# Altium integrated library Maxim Sensors.IntLib: 1171 symbols (part 11 of 61)
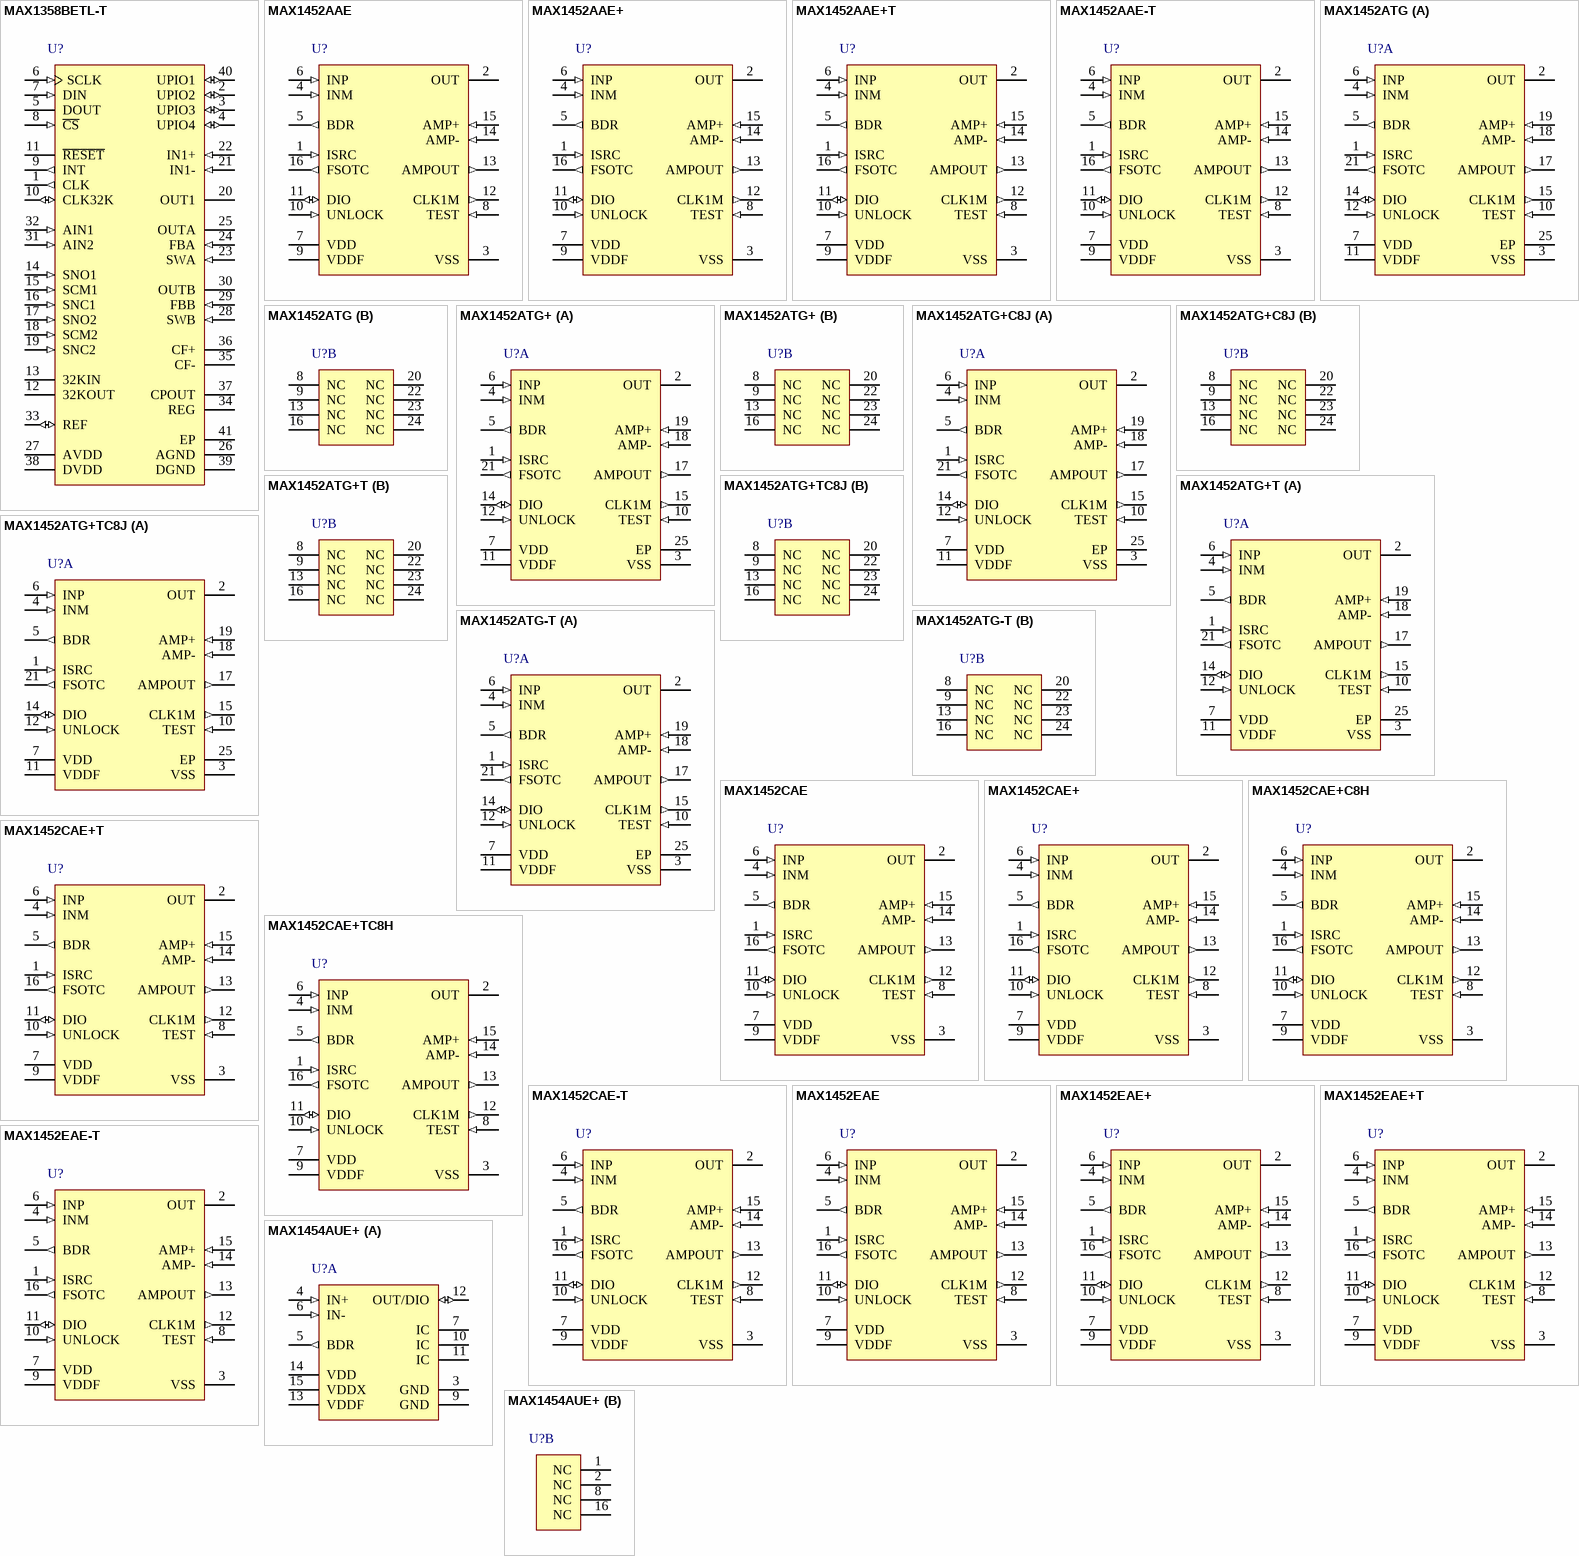
[diagram p43: symbols MAX1358BETL-T to MAX1454AUE+]

## MAX1452AAE+
designator U?
Low Cost Precision Sensor Signal Conditioner with 16-bit DAC, -40 to 125 degC, 24-Pin SOP (A16+2), Pb-Free; Generic Part Number: MAX1452; PartNumber: MAX1452AAE+; Calibration Method: Internal DACs updated from internal EEPROM; Industry Qualified: Automotive - AECQ100, Automotive - General; Output Type: Analog; DatasheetVersion: Rev. 2; PackageVersion: Rev. C, 02/2010; PackageReference: A16+2; PackageDescription: 16-Pin Shrink Small-Outline Package, Body 5.29 x 6.2 mm, Pitch 0.65 mm; Supplier 1: Digi-Key; Supplier Part Number 1: MAX1452AAE+-ND; Supplier 2: Farnell; Supplier Part Number 2: 1606618; Supplier 3: Mouser; Supplier Part Number 3: 700-MAX1452AAE; DACs/ADCs: 16-bit DAC; Features: Aux. Op Amp, No External Trim Req'd ,Temp. Sensor; Mounting Technology: Surface Mount; ComponentLink1Description: Manufacturer URL; ComponentLink1URL: http://www.maximintegrated.com/; ComponentLink2Description: Datasheet; ComponentLink2URL: http://datasheets.maximintegrated.com/en/ds/MAX1452.pdf; ComponentLink3Description: Package Specification; ComponentLink3URL: http://pdfserv.maximintegrated.com/package_dwgs/21-0056.PDF
footprint MAXM-A16+2_N (SOP, 16-Leads, Body 6.2x5.29mm, Pitch 0.65mm, IPC Medium Density)
footprint MAXM-A16+2_L (SOP, 16-Leads, Body 6.2x5.29mm, Pitch 0.65mm, IPC High Density)
footprint MAXM-A16+2_M (SOP, 16-Leads, Body 6.2x5.29mm, Pitch 0.65mm, IPC Low Density)
pins: 1 ISRC (in) "Bridge Drive Current Mode Setting", 2 OUT (hiz) "High ESD and Scan Path Output Signal. May need a 0.1uF capacitor, in noisy environments. OUT may be parallel connected to DIO.", 3 VSS (power) "Negative Supply Voltage", 4 INM (in) "Bridge Negative Input. Can be swapped to INP by configuration register.", 5 BDR (out) "Bridge Drive", 6 INP (in) "Bridge Positive Input. Can be swapped to INM by configuration register.", 7 VDD (power) "Positive Supply Voltage. Connect a 0.1uF capacitor from VDD to VSS.", 8 TEST (in) "Internally Connected. Connect to VSS.", 9 VDDF (power) "Positive Supply Voltage for EEPROM. Connect a 1uF capacitor from VDDF to VSS. Connect VDDF to VDD or for improved noise performance connect a 30ohm resistor to VDD.", 10 UNLOCK (in) "Secure-Lock Disable. Allows communication to the device.", 11 DIO (io) "Digital Input Output. DIO allows communication with the device.", 12 CLK1M (out) "1MHz Clock Output. The output can be controlled by a configuration bit.", 13 AMPOUT (out) "Uncommitted Amplifier Output", 14 AMP- (in) "Uncommitted Amplifier Negative Input", 15 AMP+ (in) "Uncommitted Amplifier Positive Input", 16 FSOTC (out) "Full Span TC Buffered Output"

## MAX1452AAE+T
designator U?
Low Cost Precision Sensor Signal Conditioner with 16-bit DAC, -40 to 125 degC, 24-Pin SOP (A16+2), Pb-Free, Tape and Reel; Generic Part Number: MAX1452; PartNumber: MAX1452AAE+T; Calibration Method: Internal DACs updated from internal EEPROM; Industry Qualified: Automotive - AECQ100, Automotive - General; Output Type: Analog; DatasheetVersion: Rev. 2; PackageVersion: Rev. C, 02/2010; PackageReference: A16+2; PackageDescription: 16-Pin Shrink Small-Outline Package, Body 5.29 x 6.2 mm, Pitch 0.65 mm; Supplier 1: Digi-Key; Supplier Part Number 1: MAX1452AAE+T-ND; Supplier 2: Mouser; Supplier Part Number 2: 700-MAX1452AAET; DACs/ADCs: 16-bit DAC; Features: Aux. Op Amp, No External Trim Req'd ,Temp. Sensor; Packing: Tape and Reel; Mounting Technology: Surface Mount; ComponentLink1Description: Manufacturer URL; ComponentLink1URL: http://www.maximintegrated.com/; ComponentLink2Description: Datasheet; ComponentLink2URL: http://datasheets.maximintegrated.com/en/ds/MAX1452.pdf; ComponentLink3Description: Package Specification; ComponentLink3URL: http://pdfserv.maximintegrated.com/package_dwgs/21-0056.PDF
footprint MAXM-A16+2_N (SOP, 16-Leads, Body 6.2x5.29mm, Pitch 0.65mm, IPC Medium Density)
footprint MAXM-A16+2_L (SOP, 16-Leads, Body 6.2x5.29mm, Pitch 0.65mm, IPC High Density)
footprint MAXM-A16+2_M (SOP, 16-Leads, Body 6.2x5.29mm, Pitch 0.65mm, IPC Low Density)
pins: 1 ISRC (in) "Bridge Drive Current Mode Setting", 2 OUT (hiz) "High ESD and Scan Path Output Signal. May need a 0.1uF capacitor, in noisy environments. OUT may be parallel connected to DIO.", 3 VSS (power) "Negative Supply Voltage", 4 INM (in) "Bridge Negative Input. Can be swapped to INP by configuration register.", 5 BDR (out) "Bridge Drive", 6 INP (in) "Bridge Positive Input. Can be swapped to INM by configuration register.", 7 VDD (power) "Positive Supply Voltage. Connect a 0.1uF capacitor from VDD to VSS.", 8 TEST (in) "Internally Connected. Connect to VSS.", 9 VDDF (power) "Positive Supply Voltage for EEPROM. Connect a 1uF capacitor from VDDF to VSS. Connect VDDF to VDD or for improved noise performance connect a 30ohm resistor to VDD.", 10 UNLOCK (in) "Secure-Lock Disable. Allows communication to the device.", 11 DIO (io) "Digital Input Output. DIO allows communication with the device.", 12 CLK1M (out) "1MHz Clock Output. The output can be controlled by a configuration bit.", 13 AMPOUT (out) "Uncommitted Amplifier Output", 14 AMP- (in) "Uncommitted Amplifier Negative Input", 15 AMP+ (in) "Uncommitted Amplifier Positive Input", 16 FSOTC (out) "Full Span TC Buffered Output"

## MAX1452AAE-T
designator U?
Low Cost Precision Sensor Signal Conditioner with 16-bit DAC, -40 to 125 degC, 24-Pin SOP (A16-2), Tape and Reel; Generic Part Number: MAX1452; PartNumber: MAX1452AAE-T; Calibration Method: Internal DACs updated from internal EEPROM; Industry Qualified: Automotive - AECQ100, Automotive - General; Output Type: Analog; DatasheetVersion: Rev. 2; PackageVersion: Rev. C, 02/2010; PackageReference: A16-2; PackageDescription: 16-Pin Shrink Small-Outline Package, Body 5.29 x 6.2 mm, Pitch 0.65 mm; Supplier 1: Mouser; Supplier Part Number 1: N/A; DACs/ADCs: 16-bit DAC; Features: Aux. Op Amp, No External Trim Req'd ,Temp. Sensor; Packing: Tape and Reel; Mounting Technology: Surface Mount; ComponentLink1Description: Manufacturer URL; ComponentLink1URL: http://www.maximintegrated.com/; ComponentLink2Description: Datasheet; ComponentLink2URL: http://datasheets.maximintegrated.com/en/ds/MAX1452.pdf; ComponentLink3Description: Package Specification; ComponentLink3URL: http://pdfserv.maximintegrated.com/package_dwgs/21-0056.PDF
footprint MAXM-A16-2_N (SOP, 16-Leads, Body 6.2x5.29mm, Pitch 0.65mm, IPC Medium Density)
footprint MAXM-A16-2_L (SOP, 16-Leads, Body 6.2x5.29mm, Pitch 0.65mm, IPC High Density)
footprint MAXM-A16-2_M (SOP, 16-Leads, Body 6.2x5.29mm, Pitch 0.65mm, IPC Low Density)
pins: 1 ISRC (in) "Bridge Drive Current Mode Setting", 2 OUT (hiz) "High ESD and Scan Path Output Signal. May need a 0.1uF capacitor, in noisy environments. OUT may be parallel connected to DIO.", 3 VSS (power) "Negative Supply Voltage", 4 INM (in) "Bridge Negative Input. Can be swapped to INP by configuration register.", 5 BDR (out) "Bridge Drive", 6 INP (in) "Bridge Positive Input. Can be swapped to INM by configuration register.", 7 VDD (power) "Positive Supply Voltage. Connect a 0.1uF capacitor from VDD to VSS.", 8 TEST (in) "Internally Connected. Connect to VSS.", 9 VDDF (power) "Positive Supply Voltage for EEPROM. Connect a 1uF capacitor from VDDF to VSS. Connect VDDF to VDD or for improved noise performance connect a 30ohm resistor to VDD.", 10 UNLOCK (in) "Secure-Lock Disable. Allows communication to the device.", 11 DIO (io) "Digital Input Output. DIO allows communication with the device.", 12 CLK1M (out) "1MHz Clock Output. The output can be controlled by a configuration bit.", 13 AMPOUT (out) "Uncommitted Amplifier Output", 14 AMP- (in) "Uncommitted Amplifier Negative Input", 15 AMP+ (in) "Uncommitted Amplifier Positive Input", 16 FSOTC (out) "Full Span TC Buffered Output"

## MAX1452ATG
designator U?
Low Cost Precision Sensor Signal Conditioner with 16-bit DAC, -40 to 125 degC, 24-Pin QFN (T2444-4); Generic Part Number: MAX1452; PartNumber: MAX1452ATG; Calibration Method: Internal DACs updated from internal EEPROM; Industry Qualified: Automotive - AECQ100, Automotive - General; Output Type: Analog; DatasheetVersion: Rev. 2; PackageVersion: Rev. L, 04/2012; PackageReference: T2444-4; PackageDescription: 24-Pin Thin Quad Flatpack, No Leads, Body 4 x 4 mm, Pitch 0.5 mm; Supplier 1: Mouser; Supplier Part Number 1: N/A; DACs/ADCs: 16-bit DAC; Features: Aux. Op Amp, No External Trim Req'd ,Temp. Sensor; Mounting Technology: Surface Mount; Code_JEDEC: MO-220; ComponentLink1Description: Manufacturer URL; ComponentLink1URL: http://www.maximintegrated.com/; ComponentLink2Description: Datasheet; ComponentLink2URL: http://datasheets.maximintegrated.com/en/ds/MAX1452.pdf; ComponentLink3Description: Package Specification; ComponentLink3URL: http://pdfserv.maximintegrated.com/package_dwgs/21-0139.PDF
footprint MAXM-T2444-4_N (QFN, 24-Leads, Body 4x3.9mm, Pitch 0.5mm, Thermal Pad 2.54x2.54mm, IPC Medium Density)
footprint MAXM-T2444-4_L (QFN, 24-Leads, Body 4x3.9mm, Pitch 0.5mm, Thermal Pad 2.54x2.54mm, IPC High Density)
footprint MAXM-T2444-4_M (QFN, 24-Leads, Body 4x3.9mm, Pitch 0.5mm, Thermal Pad 2.54x2.54mm, IPC Low Density)
part A pins: 1 ISRC (in) "Bridge Drive Current Mode Setting", 2 OUT (hiz) "High ESD and Scan Path Output Signal. May need a 0.1uF capacitor, in noisy environments. OUT may be parallel connected to DIO.", 3 VSS (power) "Negative Supply Voltage", 4 INM (in) "Bridge Negative Input. Can be swapped to INP by configuration register.", 5 BDR (out) "Bridge Drive", 6 INP (in) "Bridge Positive Input. Can be swapped to INM by configuration register.", 7 VDD (power) "Positive Supply Voltage. Connect a 0.1uF capacitor from VDD to VSS.", 10 TEST (in) "Internally Connected. Connect to VSS.", 11 VDDF (power) "Positive Supply Voltage for EEPROM. Connect a 1uF capacitor from VDDF to VSS. Connect VDDF to VDD or for improved noise performance connect a 30ohm resistor to VDD.", 12 UNLOCK (in) "Secure-Lock Disable. Allows communication to the device.", 14 DIO (io) "Digital Input Output. DIO allows communication with the device.", 15 CLK1M (out) "1MHz Clock Output. The output can be controlled by a configuration bit.", 17 AMPOUT (out) "Uncommitted Amplifier Output", 18 AMP- (in) "Uncommitted Amplifier Negative Input", 19 AMP+ (in) "Uncommitted Amplifier Positive Input", 21 FSOTC (out) "Full Span TC Buffered Output", 25 EP (power) "Exposed Pad (TQFN Only). Internally connected; connect to VSS."
part B pins: 8 NC "No Connection. Not internally connected; leave unconnected (TQFN package only).", 9 NC "No Connection. Not internally connected; leave unconnected (TQFN package only).", 13 NC "No Connection. Not internally connected; leave unconnected (TQFN package only).", 16 NC "No Connection. Not internally connected; leave unconnected (TQFN package only).", 20 NC "No Connection. Not internally connected; leave unconnected (TQFN package only).", 22 NC "No Connection. Not internally connected; leave unconnected (TQFN package only).", 23 NC "No Connection. Not internally connected; leave unconnected (TQFN package only).", 24 NC "No Connection. Not internally connected; leave unconnected (TQFN package only)."

## MAX1452ATG+
designator U?
Low Cost Precision Sensor Signal Conditioner with 16-bit DAC, -40 to 125 degC, 24-Pin QFN (T2444+4), Pb-Free; Generic Part Number: MAX1452; PartNumber: MAX1452ATG+; Calibration Method: Internal DACs updated from internal EEPROM; Industry Qualified: Automotive - AECQ100, Automotive - General; Output Type: Analog; DatasheetVersion: Rev. 2; PackageVersion: Rev. L, 04/2012; PackageReference: T2444+4; PackageDescription: 24-Pin Thin Quad Flatpack, No Leads, Body 4 x 4 mm, Pitch 0.5 mm; Supplier 1: Digi-Key; Supplier Part Number 1: MAX1452ATG+-ND; Supplier 2: Mouser; Supplier Part Number 2: 700-MAX1452ATG+; DACs/ADCs: 16-bit DAC; Features: Aux. Op Amp, No External Trim Req'd ,Temp. Sensor; Mounting Technology: Surface Mount; Code_JEDEC: MO-220; ComponentLink1Description: Manufacturer URL; ComponentLink1URL: http://www.maximintegrated.com/; ComponentLink2Description: Datasheet; ComponentLink2URL: http://datasheets.maximintegrated.com/en/ds/MAX1452.pdf; ComponentLink3Description: Package Specification; ComponentLink3URL: http://pdfserv.maximintegrated.com/package_dwgs/21-0139.PDF
footprint MAXM-T2444+4_N (QFN, 24-Leads, Body 4x3.9mm, Pitch 0.5mm, Thermal Pad 2.54x2.54mm, IPC Medium Density)
footprint MAXM-T2444+4_L (QFN, 24-Leads, Body 4x3.9mm, Pitch 0.5mm, Thermal Pad 2.54x2.54mm, IPC High Density)
footprint MAXM-T2444+4_M (QFN, 24-Leads, Body 4x3.9mm, Pitch 0.5mm, Thermal Pad 2.54x2.54mm, IPC Low Density)
part A pins: 1 ISRC (in) "Bridge Drive Current Mode Setting", 2 OUT (hiz) "High ESD and Scan Path Output Signal. May need a 0.1uF capacitor, in noisy environments. OUT may be parallel connected to DIO.", 3 VSS (power) "Negative Supply Voltage", 4 INM (in) "Bridge Negative Input. Can be swapped to INP by configuration register.", 5 BDR (out) "Bridge Drive", 6 INP (in) "Bridge Positive Input. Can be swapped to INM by configuration register.", 7 VDD (power) "Positive Supply Voltage. Connect a 0.1uF capacitor from VDD to VSS.", 10 TEST (in) "Internally Connected. Connect to VSS.", 11 VDDF (power) "Positive Supply Voltage for EEPROM. Connect a 1uF capacitor from VDDF to VSS. Connect VDDF to VDD or for improved noise performance connect a 30ohm resistor to VDD.", 12 UNLOCK (in) "Secure-Lock Disable. Allows communication to the device.", 14 DIO (io) "Digital Input Output. DIO allows communication with the device.", 15 CLK1M (out) "1MHz Clock Output. The output can be controlled by a configuration bit.", 17 AMPOUT (out) "Uncommitted Amplifier Output", 18 AMP- (in) "Uncommitted Amplifier Negative Input", 19 AMP+ (in) "Uncommitted Amplifier Positive Input", 21 FSOTC (out) "Full Span TC Buffered Output", 25 EP (power) "Exposed Pad (TQFN Only). Internally connected; connect to VSS."
part B pins: 8 NC "No Connection. Not internally connected; leave unconnected (TQFN package only).", 9 NC "No Connection. Not internally connected; leave unconnected (TQFN package only).", 13 NC "No Connection. Not internally connected; leave unconnected (TQFN package only).", 16 NC "No Connection. Not internally connected; leave unconnected (TQFN package only).", 20 NC "No Connection. Not internally connected; leave unconnected (TQFN package only).", 22 NC "No Connection. Not internally connected; leave unconnected (TQFN package only).", 23 NC "No Connection. Not internally connected; leave unconnected (TQFN package only).", 24 NC "No Connection. Not internally connected; leave unconnected (TQFN package only)."

## MAX1452ATG+C8J
designator U?
Low Cost Precision Sensor Signal Conditioner with 16-bit DAC, -40 to 125 degC, 24-Pin QFN (T2444+4), Pb-Free; Generic Part Number: MAX1452; PartNumber: MAX1452ATG+C8J; Calibration Method: Internal DACs updated from internal EEPROM; Industry Qualified: Automotive - AECQ100, Automotive - General; Output Type: Analog; DatasheetVersion: Rev. 2; PackageVersion: Rev. L, 04/2012; PackageReference: T2444+4; PackageDescription: 24-Pin Thin Quad Flatpack, No Leads, Body 4 x 4 mm, Pitch 0.5 mm; Supplier 1: Mouser; Supplier Part Number 1: N/A; DACs/ADCs: 16-bit DAC; Features: Aux. Op Amp, No External Trim Req'd ,Temp. Sensor; Mounting Technology: Surface Mount; Code_JEDEC: MO-220; ComponentLink1Description: Manufacturer URL; ComponentLink1URL: http://www.maximintegrated.com/; ComponentLink2Description: Datasheet; ComponentLink2URL: http://datasheets.maximintegrated.com/en/ds/MAX1452.pdf; ComponentLink3Description: Package Specification; ComponentLink3URL: http://pdfserv.maximintegrated.com/package_dwgs/21-0139.PDF
footprint MAXM-T2444+4_N (QFN, 24-Leads, Body 4x3.9mm, Pitch 0.5mm, Thermal Pad 2.54x2.54mm, IPC Medium Density)
footprint MAXM-T2444+4_L (QFN, 24-Leads, Body 4x3.9mm, Pitch 0.5mm, Thermal Pad 2.54x2.54mm, IPC High Density)
footprint MAXM-T2444+4_M (QFN, 24-Leads, Body 4x3.9mm, Pitch 0.5mm, Thermal Pad 2.54x2.54mm, IPC Low Density)
part A pins: 1 ISRC (in) "Bridge Drive Current Mode Setting", 2 OUT (hiz) "High ESD and Scan Path Output Signal. May need a 0.1uF capacitor, in noisy environments. OUT may be parallel connected to DIO.", 3 VSS (power) "Negative Supply Voltage", 4 INM (in) "Bridge Negative Input. Can be swapped to INP by configuration register.", 5 BDR (out) "Bridge Drive", 6 INP (in) "Bridge Positive Input. Can be swapped to INM by configuration register.", 7 VDD (power) "Positive Supply Voltage. Connect a 0.1uF capacitor from VDD to VSS.", 10 TEST (in) "Internally Connected. Connect to VSS.", 11 VDDF (power) "Positive Supply Voltage for EEPROM. Connect a 1uF capacitor from VDDF to VSS. Connect VDDF to VDD or for improved noise performance connect a 30ohm resistor to VDD.", 12 UNLOCK (in) "Secure-Lock Disable. Allows communication to the device.", 14 DIO (io) "Digital Input Output. DIO allows communication with the device.", 15 CLK1M (out) "1MHz Clock Output. The output can be controlled by a configuration bit.", 17 AMPOUT (out) "Uncommitted Amplifier Output", 18 AMP- (in) "Uncommitted Amplifier Negative Input", 19 AMP+ (in) "Uncommitted Amplifier Positive Input", 21 FSOTC (out) "Full Span TC Buffered Output", 25 EP (power) "Exposed Pad (TQFN Only). Internally connected; connect to VSS."
part B pins: 8 NC "No Connection. Not internally connected; leave unconnected (TQFN package only).", 9 NC "No Connection. Not internally connected; leave unconnected (TQFN package only).", 13 NC "No Connection. Not internally connected; leave unconnected (TQFN package only).", 16 NC "No Connection. Not internally connected; leave unconnected (TQFN package only).", 20 NC "No Connection. Not internally connected; leave unconnected (TQFN package only).", 22 NC "No Connection. Not internally connected; leave unconnected (TQFN package only).", 23 NC "No Connection. Not internally connected; leave unconnected (TQFN package only).", 24 NC "No Connection. Not internally connected; leave unconnected (TQFN package only)."

## MAX1452ATG+T
designator U?
Low Cost Precision Sensor Signal Conditioner with 16-bit DAC, -40 to 125 degC, 24-Pin QFN (T2444+4), Pb-Free, Tape and Reel; Generic Part Number: MAX1452; PartNumber: MAX1452ATG+T; Calibration Method: Internal DACs updated from internal EEPROM; Industry Qualified: Automotive - AECQ100, Automotive - General; Output Type: Analog; DatasheetVersion: Rev. 2; PackageVersion: Rev. L, 04/2012; PackageReference: T2444+4; PackageDescription: 24-Pin Thin Quad Flatpack, No Leads, Body 4 x 4 mm, Pitch 0.5 mm; Supplier 1: Digi-Key; Supplier Part Number 1: MAX1452ATG+T-ND; Supplier 2: Mouser; Supplier Part Number 2: 700-MAX1452ATG+T; DACs/ADCs: 16-bit DAC; Features: Aux. Op Amp, No External Trim Req'd ,Temp. Sensor; Packing: Tape and Reel; Mounting Technology: Surface Mount; Code_JEDEC: MO-220; ComponentLink1Description: Manufacturer URL; ComponentLink1URL: http://www.maximintegrated.com/; ComponentLink2Description: Datasheet; ComponentLink2URL: http://datasheets.maximintegrated.com/en/ds/MAX1452.pdf; ComponentLink3Description: Package Specification; ComponentLink3URL: http://pdfserv.maximintegrated.com/package_dwgs/21-0139.PDF
footprint MAXM-T2444+4_N (QFN, 24-Leads, Body 4x3.9mm, Pitch 0.5mm, Thermal Pad 2.54x2.54mm, IPC Medium Density)
footprint MAXM-T2444+4_L (QFN, 24-Leads, Body 4x3.9mm, Pitch 0.5mm, Thermal Pad 2.54x2.54mm, IPC High Density)
footprint MAXM-T2444+4_M (QFN, 24-Leads, Body 4x3.9mm, Pitch 0.5mm, Thermal Pad 2.54x2.54mm, IPC Low Density)
part A pins: 1 ISRC (in) "Bridge Drive Current Mode Setting", 2 OUT (hiz) "High ESD and Scan Path Output Signal. May need a 0.1uF capacitor, in noisy environments. OUT may be parallel connected to DIO.", 3 VSS (power) "Negative Supply Voltage", 4 INM (in) "Bridge Negative Input. Can be swapped to INP by configuration register.", 5 BDR (out) "Bridge Drive", 6 INP (in) "Bridge Positive Input. Can be swapped to INM by configuration register.", 7 VDD (power) "Positive Supply Voltage. Connect a 0.1uF capacitor from VDD to VSS.", 10 TEST (in) "Internally Connected. Connect to VSS.", 11 VDDF (power) "Positive Supply Voltage for EEPROM. Connect a 1uF capacitor from VDDF to VSS. Connect VDDF to VDD or for improved noise performance connect a 30ohm resistor to VDD.", 12 UNLOCK (in) "Secure-Lock Disable. Allows communication to the device.", 14 DIO (io) "Digital Input Output. DIO allows communication with the device.", 15 CLK1M (out) "1MHz Clock Output. The output can be controlled by a configuration bit.", 17 AMPOUT (out) "Uncommitted Amplifier Output", 18 AMP- (in) "Uncommitted Amplifier Negative Input", 19 AMP+ (in) "Uncommitted Amplifier Positive Input", 21 FSOTC (out) "Full Span TC Buffered Output", 25 EP (power) "Exposed Pad (TQFN Only). Internally connected; connect to VSS."
part B pins: 8 NC "No Connection. Not internally connected; leave unconnected (TQFN package only).", 9 NC "No Connection. Not internally connected; leave unconnected (TQFN package only).", 13 NC "No Connection. Not internally connected; leave unconnected (TQFN package only).", 16 NC "No Connection. Not internally connected; leave unconnected (TQFN package only).", 20 NC "No Connection. Not internally connected; leave unconnected (TQFN package only).", 22 NC "No Connection. Not internally connected; leave unconnected (TQFN package only).", 23 NC "No Connection. Not internally connected; leave unconnected (TQFN package only).", 24 NC "No Connection. Not internally connected; leave unconnected (TQFN package only)."

## MAX1452ATG+TC8J
designator U?
Low Cost Precision Sensor Signal Conditioner with 16-bit DAC, -40 to 125 degC, 24-Pin QFN (T2444+4), Pb-Free, Tape and Reel; Generic Part Number: MAX1452; PartNumber: MAX1452ATG+TC8J; Calibration Method: Internal DACs updated from internal EEPROM; Industry Qualified: Automotive - AECQ100, Automotive - General; Output Type: Analog; DatasheetVersion: Rev. 2; PackageVersion: Rev. L, 04/2012; PackageReference: T2444+4; PackageDescription: 24-Pin Thin Quad Flatpack, No Leads, Body 4 x 4 mm, Pitch 0.5 mm; Supplier 1: Mouser; Supplier Part Number 1: N/A; DACs/ADCs: 16-bit DAC; Features: Aux. Op Amp, No External Trim Req'd ,Temp. Sensor; Packing: Tape and Reel; Mounting Technology: Surface Mount; Code_JEDEC: MO-220; ComponentLink1Description: Manufacturer URL; ComponentLink1URL: http://www.maximintegrated.com/; ComponentLink2Description: Datasheet; ComponentLink2URL: http://datasheets.maximintegrated.com/en/ds/MAX1452.pdf; ComponentLink3Description: Package Specification; ComponentLink3URL: http://pdfserv.maximintegrated.com/package_dwgs/21-0139.PDF
footprint MAXM-T2444+4_N (QFN, 24-Leads, Body 4x3.9mm, Pitch 0.5mm, Thermal Pad 2.54x2.54mm, IPC Medium Density)
footprint MAXM-T2444+4_L (QFN, 24-Leads, Body 4x3.9mm, Pitch 0.5mm, Thermal Pad 2.54x2.54mm, IPC High Density)
footprint MAXM-T2444+4_M (QFN, 24-Leads, Body 4x3.9mm, Pitch 0.5mm, Thermal Pad 2.54x2.54mm, IPC Low Density)
part A pins: 1 ISRC (in) "Bridge Drive Current Mode Setting", 2 OUT (hiz) "High ESD and Scan Path Output Signal. May need a 0.1uF capacitor, in noisy environments. OUT may be parallel connected to DIO.", 3 VSS (power) "Negative Supply Voltage", 4 INM (in) "Bridge Negative Input. Can be swapped to INP by configuration register.", 5 BDR (out) "Bridge Drive", 6 INP (in) "Bridge Positive Input. Can be swapped to INM by configuration register.", 7 VDD (power) "Positive Supply Voltage. Connect a 0.1uF capacitor from VDD to VSS.", 10 TEST (in) "Internally Connected. Connect to VSS.", 11 VDDF (power) "Positive Supply Voltage for EEPROM. Connect a 1uF capacitor from VDDF to VSS. Connect VDDF to VDD or for improved noise performance connect a 30ohm resistor to VDD.", 12 UNLOCK (in) "Secure-Lock Disable. Allows communication to the device.", 14 DIO (io) "Digital Input Output. DIO allows communication with the device.", 15 CLK1M (out) "1MHz Clock Output. The output can be controlled by a configuration bit.", 17 AMPOUT (out) "Uncommitted Amplifier Output", 18 AMP- (in) "Uncommitted Amplifier Negative Input", 19 AMP+ (in) "Uncommitted Amplifier Positive Input", 21 FSOTC (out) "Full Span TC Buffered Output", 25 EP (power) "Exposed Pad (TQFN Only). Internally connected; connect to VSS."
part B pins: 8 NC "No Connection. Not internally connected; leave unconnected (TQFN package only).", 9 NC "No Connection. Not internally connected; leave unconnected (TQFN package only).", 13 NC "No Connection. Not internally connected; leave unconnected (TQFN package only).", 16 NC "No Connection. Not internally connected; leave unconnected (TQFN package only).", 20 NC "No Connection. Not internally connected; leave unconnected (TQFN package only).", 22 NC "No Connection. Not internally connected; leave unconnected (TQFN package only).", 23 NC "No Connection. Not internally connected; leave unconnected (TQFN package only).", 24 NC "No Connection. Not internally connected; leave unconnected (TQFN package only)."

## MAX1452ATG-T
designator U?
Low Cost Precision Sensor Signal Conditioner with 16-bit DAC, -40 to 125 degC, 24-Pin QFN (T2444-4), Tape and Reel; Generic Part Number: MAX1452; PartNumber: MAX1452ATG-T; Calibration Method: Internal DACs updated from internal EEPROM; Industry Qualified: Automotive - AECQ100, Automotive - General; Output Type: Analog; DatasheetVersion: Rev. 2; PackageVersion: Rev. L, 04/2012; PackageReference: T2444-4; PackageDescription: 24-Pin Thin Quad Flatpack, No Leads, Body 4 x 4 mm, Pitch 0.5 mm; Supplier 1: Mouser; Supplier Part Number 1: N/A; DACs/ADCs: 16-bit DAC; Features: Aux. Op Amp, No External Trim Req'd ,Temp. Sensor; Packing: Tape and Reel; Mounting Technology: Surface Mount; Code_JEDEC: MO-220; ComponentLink1Description: Manufacturer URL; ComponentLink1URL: http://www.maximintegrated.com/; ComponentLink2Description: Datasheet; ComponentLink2URL: http://datasheets.maximintegrated.com/en/ds/MAX1452.pdf; ComponentLink3Description: Package Specification; ComponentLink3URL: http://pdfserv.maximintegrated.com/package_dwgs/21-0139.PDF
footprint MAXM-T2444-4_N (QFN, 24-Leads, Body 4x3.9mm, Pitch 0.5mm, Thermal Pad 2.54x2.54mm, IPC Medium Density)
footprint MAXM-T2444-4_L (QFN, 24-Leads, Body 4x3.9mm, Pitch 0.5mm, Thermal Pad 2.54x2.54mm, IPC High Density)
footprint MAXM-T2444-4_M (QFN, 24-Leads, Body 4x3.9mm, Pitch 0.5mm, Thermal Pad 2.54x2.54mm, IPC Low Density)
part A pins: 1 ISRC (in) "Bridge Drive Current Mode Setting", 2 OUT (hiz) "High ESD and Scan Path Output Signal. May need a 0.1uF capacitor, in noisy environments. OUT may be parallel connected to DIO.", 3 VSS (power) "Negative Supply Voltage", 4 INM (in) "Bridge Negative Input. Can be swapped to INP by configuration register.", 5 BDR (out) "Bridge Drive", 6 INP (in) "Bridge Positive Input. Can be swapped to INM by configuration register.", 7 VDD (power) "Positive Supply Voltage. Connect a 0.1uF capacitor from VDD to VSS.", 10 TEST (in) "Internally Connected. Connect to VSS.", 11 VDDF (power) "Positive Supply Voltage for EEPROM. Connect a 1uF capacitor from VDDF to VSS. Connect VDDF to VDD or for improved noise performance connect a 30ohm resistor to VDD.", 12 UNLOCK (in) "Secure-Lock Disable. Allows communication to the device.", 14 DIO (io) "Digital Input Output. DIO allows communication with the device.", 15 CLK1M (out) "1MHz Clock Output. The output can be controlled by a configuration bit.", 17 AMPOUT (out) "Uncommitted Amplifier Output", 18 AMP- (in) "Uncommitted Amplifier Negative Input", 19 AMP+ (in) "Uncommitted Amplifier Positive Input", 21 FSOTC (out) "Full Span TC Buffered Output", 25 EP (power) "Exposed Pad (TQFN Only). Internally connected; connect to VSS."
part B pins: 8 NC "No Connection. Not internally connected; leave unconnected (TQFN package only).", 9 NC "No Connection. Not internally connected; leave unconnected (TQFN package only).", 13 NC "No Connection. Not internally connected; leave unconnected (TQFN package only).", 16 NC "No Connection. Not internally connected; leave unconnected (TQFN package only).", 20 NC "No Connection. Not internally connected; leave unconnected (TQFN package only).", 22 NC "No Connection. Not internally connected; leave unconnected (TQFN package only).", 23 NC "No Connection. Not internally connected; leave unconnected (TQFN package only).", 24 NC "No Connection. Not internally connected; leave unconnected (TQFN package only)."

## MAX1452CAE
designator U?
Low Cost Precision Sensor Signal Conditioner with 16-bit DAC, 0 to 70 degC, 16-Pin SOP (A16-2); Generic Part Number: MAX1452; PartNumber: MAX1452CAE; Calibration Method: Internal DACs updated from internal EEPROM; Industry Qualified: Automotive - AECQ100, Automotive - General; Output Type: Analog; DatasheetVersion: Rev. 2; PackageVersion: Rev. C, 02/2010; PackageReference: A16-2; PackageDescription: 16-Pin Shrink Small-Outline Package, Body 5.29 x 6.2 mm, Pitch 0.65 mm; Supplier 1: Mouser; Supplier Part Number 1: N/A; DACs/ADCs: 16-bit DAC; Features: Aux. Op Amp, No External Trim Req'd ,Temp. Sensor; Mounting Technology: Surface Mount; ComponentLink1Description: Manufacturer URL; ComponentLink1URL: http://www.maximintegrated.com/; ComponentLink2Description: Datasheet; ComponentLink2URL: http://datasheets.maximintegrated.com/en/ds/MAX1452.pdf; ComponentLink3Description: Package Specification; ComponentLink3URL: http://pdfserv.maximintegrated.com/package_dwgs/21-0056.PDF
footprint MAXM-A16-2_N (SOP, 16-Leads, Body 6.2x5.29mm, Pitch 0.65mm, IPC Medium Density)
footprint MAXM-A16-2_L (SOP, 16-Leads, Body 6.2x5.29mm, Pitch 0.65mm, IPC High Density)
footprint MAXM-A16-2_M (SOP, 16-Leads, Body 6.2x5.29mm, Pitch 0.65mm, IPC Low Density)
pins: 1 ISRC (in) "Bridge Drive Current Mode Setting", 2 OUT (hiz) "High ESD and Scan Path Output Signal. May need a 0.1uF capacitor, in noisy environments. OUT may be parallel connected to DIO.", 3 VSS (power) "Negative Supply Voltage", 4 INM (in) "Bridge Negative Input. Can be swapped to INP by configuration register.", 5 BDR (out) "Bridge Drive", 6 INP (in) "Bridge Positive Input. Can be swapped to INM by configuration register.", 7 VDD (power) "Positive Supply Voltage. Connect a 0.1uF capacitor from VDD to VSS.", 8 TEST (in) "Internally Connected. Connect to VSS.", 9 VDDF (power) "Positive Supply Voltage for EEPROM. Connect a 1uF capacitor from VDDF to VSS. Connect VDDF to VDD or for improved noise performance connect a 30ohm resistor to VDD.", 10 UNLOCK (in) "Secure-Lock Disable. Allows communication to the device.", 11 DIO (io) "Digital Input Output. DIO allows communication with the device.", 12 CLK1M (out) "1MHz Clock Output. The output can be controlled by a configuration bit.", 13 AMPOUT (out) "Uncommitted Amplifier Output", 14 AMP- (in) "Uncommitted Amplifier Negative Input", 15 AMP+ (in) "Uncommitted Amplifier Positive Input", 16 FSOTC (out) "Full Span TC Buffered Output"

## MAX1452CAE+
designator U?
Low Cost Precision Sensor Signal Conditioner with 16-bit DAC, 0 to 70 degC, 16-Pin SOP (A16+2), Pb-Free; Generic Part Number: MAX1452; PartNumber: MAX1452CAE+; Calibration Method: Internal DACs updated from internal EEPROM; Industry Qualified: Automotive - AECQ100, Automotive - General; Output Type: Analog; DatasheetVersion: Rev. 2; PackageVersion: Rev. C, 02/2010; PackageReference: A16+2; PackageDescription: 16-Pin Shrink Small-Outline Package, Body 5.29 x 6.2 mm, Pitch 0.65 mm; Supplier 1: Digi-Key; Supplier Part Number 1: MAX1452CAE+-ND; Supplier 2: Mouser; Supplier Part Number 2: 700-MAX1452CAE; DACs/ADCs: 16-bit DAC; Features: Aux. Op Amp, No External Trim Req'd ,Temp. Sensor; Mounting Technology: Surface Mount; ComponentLink1Description: Manufacturer URL; ComponentLink1URL: http://www.maximintegrated.com/; ComponentLink2Description: Datasheet; ComponentLink2URL: http://datasheets.maximintegrated.com/en/ds/MAX1452.pdf; ComponentLink3Description: Package Specification; ComponentLink3URL: http://pdfserv.maximintegrated.com/package_dwgs/21-0056.PDF
footprint MAXM-A16+2_N (SOP, 16-Leads, Body 6.2x5.29mm, Pitch 0.65mm, IPC Medium Density)
footprint MAXM-A16+2_L (SOP, 16-Leads, Body 6.2x5.29mm, Pitch 0.65mm, IPC High Density)
footprint MAXM-A16+2_M (SOP, 16-Leads, Body 6.2x5.29mm, Pitch 0.65mm, IPC Low Density)
pins: 1 ISRC (in) "Bridge Drive Current Mode Setting", 2 OUT (hiz) "High ESD and Scan Path Output Signal. May need a 0.1uF capacitor, in noisy environments. OUT may be parallel connected to DIO.", 3 VSS (power) "Negative Supply Voltage", 4 INM (in) "Bridge Negative Input. Can be swapped to INP by configuration register.", 5 BDR (out) "Bridge Drive", 6 INP (in) "Bridge Positive Input. Can be swapped to INM by configuration register.", 7 VDD (power) "Positive Supply Voltage. Connect a 0.1uF capacitor from VDD to VSS.", 8 TEST (in) "Internally Connected. Connect to VSS.", 9 VDDF (power) "Positive Supply Voltage for EEPROM. Connect a 1uF capacitor from VDDF to VSS. Connect VDDF to VDD or for improved noise performance connect a 30ohm resistor to VDD.", 10 UNLOCK (in) "Secure-Lock Disable. Allows communication to the device.", 11 DIO (io) "Digital Input Output. DIO allows communication with the device.", 12 CLK1M (out) "1MHz Clock Output. The output can be controlled by a configuration bit.", 13 AMPOUT (out) "Uncommitted Amplifier Output", 14 AMP- (in) "Uncommitted Amplifier Negative Input", 15 AMP+ (in) "Uncommitted Amplifier Positive Input", 16 FSOTC (out) "Full Span TC Buffered Output"

## MAX1452CAE+C8H
designator U?
Low Cost Precision Sensor Signal Conditioner with 16-bit DAC, 0 to 70 degC, 16-Pin SOP (A16+2), Pb-Free; Generic Part Number: MAX1452; PartNumber: MAX1452CAE+C8H; Calibration Method: Internal DACs updated from internal EEPROM; Industry Qualified: Automotive - AECQ100, Automotive - General; Output Type: Analog; DatasheetVersion: Rev. 2; PackageVersion: Rev. C, 02/2010; PackageReference: A16+2; PackageDescription: 16-Pin Shrink Small-Outline Package, Body 5.29 x 6.2 mm, Pitch 0.65 mm; Supplier 1: Digi-Key; Supplier Part Number 1: MAX1452CAE+C8H-ND; Supplier 2: Mouser; Supplier Part Number 2: 700-MAX1452CAEC8H; DACs/ADCs: 16-bit DAC; Features: Aux. Op Amp, No External Trim Req'd ,Temp. Sensor; Mounting Technology: Surface Mount; ComponentLink1Description: Manufacturer URL; ComponentLink1URL: http://www.maximintegrated.com/; ComponentLink2Description: Datasheet; ComponentLink2URL: http://datasheets.maximintegrated.com/en/ds/MAX1452.pdf; ComponentLink3Description: Package Specification; ComponentLink3URL: http://pdfserv.maximintegrated.com/package_dwgs/21-0056.PDF
footprint MAXM-A16+2_N (SOP, 16-Leads, Body 6.2x5.29mm, Pitch 0.65mm, IPC Medium Density)
footprint MAXM-A16+2_L (SOP, 16-Leads, Body 6.2x5.29mm, Pitch 0.65mm, IPC High Density)
footprint MAXM-A16+2_M (SOP, 16-Leads, Body 6.2x5.29mm, Pitch 0.65mm, IPC Low Density)
pins: 1 ISRC (in) "Bridge Drive Current Mode Setting", 2 OUT (hiz) "High ESD and Scan Path Output Signal. May need a 0.1uF capacitor, in noisy environments. OUT may be parallel connected to DIO.", 3 VSS (power) "Negative Supply Voltage", 4 INM (in) "Bridge Negative Input. Can be swapped to INP by configuration register.", 5 BDR (out) "Bridge Drive", 6 INP (in) "Bridge Positive Input. Can be swapped to INM by configuration register.", 7 VDD (power) "Positive Supply Voltage. Connect a 0.1uF capacitor from VDD to VSS.", 8 TEST (in) "Internally Connected. Connect to VSS.", 9 VDDF (power) "Positive Supply Voltage for EEPROM. Connect a 1uF capacitor from VDDF to VSS. Connect VDDF to VDD or for improved noise performance connect a 30ohm resistor to VDD.", 10 UNLOCK (in) "Secure-Lock Disable. Allows communication to the device.", 11 DIO (io) "Digital Input Output. DIO allows communication with the device.", 12 CLK1M (out) "1MHz Clock Output. The output can be controlled by a configuration bit.", 13 AMPOUT (out) "Uncommitted Amplifier Output", 14 AMP- (in) "Uncommitted Amplifier Negative Input", 15 AMP+ (in) "Uncommitted Amplifier Positive Input", 16 FSOTC (out) "Full Span TC Buffered Output"

## MAX1452CAE+T
designator U?
Low Cost Precision Sensor Signal Conditioner with 16-bit DAC, 0 to 70 degC, 16-Pin SOP (A16+2), Pb-Free, Tape and Reel; Generic Part Number: MAX1452; PartNumber: MAX1452CAE+T; Calibration Method: Internal DACs updated from internal EEPROM; Industry Qualified: Automotive - AECQ100, Automotive - General; Output Type: Analog; DatasheetVersion: Rev. 2; PackageVersion: Rev. C, 02/2010; PackageReference: A16+2; PackageDescription: 16-Pin Shrink Small-Outline Package, Body 5.29 x 6.2 mm, Pitch 0.65 mm; Supplier 1: Digi-Key; Supplier Part Number 1: MAX1452CAE+T-ND; Supplier 2: Mouser; Supplier Part Number 2: 700-MAX1452CAET; DACs/ADCs: 16-bit DAC; Features: Aux. Op Amp, No External Trim Req'd ,Temp. Sensor; Packing: Tape and Reel; Mounting Technology: Surface Mount; ComponentLink1Description: Manufacturer URL; ComponentLink1URL: http://www.maximintegrated.com/; ComponentLink2Description: Datasheet; ComponentLink2URL: http://datasheets.maximintegrated.com/en/ds/MAX1452.pdf; ComponentLink3Description: Package Specification; ComponentLink3URL: http://pdfserv.maximintegrated.com/package_dwgs/21-0056.PDF
footprint MAXM-A16+2_N (SOP, 16-Leads, Body 6.2x5.29mm, Pitch 0.65mm, IPC Medium Density)
footprint MAXM-A16+2_L (SOP, 16-Leads, Body 6.2x5.29mm, Pitch 0.65mm, IPC High Density)
footprint MAXM-A16+2_M (SOP, 16-Leads, Body 6.2x5.29mm, Pitch 0.65mm, IPC Low Density)
pins: 1 ISRC (in) "Bridge Drive Current Mode Setting", 2 OUT (hiz) "High ESD and Scan Path Output Signal. May need a 0.1uF capacitor, in noisy environments. OUT may be parallel connected to DIO.", 3 VSS (power) "Negative Supply Voltage", 4 INM (in) "Bridge Negative Input. Can be swapped to INP by configuration register.", 5 BDR (out) "Bridge Drive", 6 INP (in) "Bridge Positive Input. Can be swapped to INM by configuration register.", 7 VDD (power) "Positive Supply Voltage. Connect a 0.1uF capacitor from VDD to VSS.", 8 TEST (in) "Internally Connected. Connect to VSS.", 9 VDDF (power) "Positive Supply Voltage for EEPROM. Connect a 1uF capacitor from VDDF to VSS. Connect VDDF to VDD or for improved noise performance connect a 30ohm resistor to VDD.", 10 UNLOCK (in) "Secure-Lock Disable. Allows communication to the device.", 11 DIO (io) "Digital Input Output. DIO allows communication with the device.", 12 CLK1M (out) "1MHz Clock Output. The output can be controlled by a configuration bit.", 13 AMPOUT (out) "Uncommitted Amplifier Output", 14 AMP- (in) "Uncommitted Amplifier Negative Input", 15 AMP+ (in) "Uncommitted Amplifier Positive Input", 16 FSOTC (out) "Full Span TC Buffered Output"

## MAX1452CAE+TC8H
designator U?
Low Cost Precision Sensor Signal Conditioner with 16-bit DAC, 0 to 70 degC, 16-Pin SOP (A16+2), Pb-Free, Tape and Reel; Generic Part Number: MAX1452; PartNumber: MAX1452CAE+TC8H; Calibration Method: Internal DACs updated from internal EEPROM; Industry Qualified: Automotive - AECQ100, Automotive - General; Output Type: Analog; DatasheetVersion: Rev. 2; PackageVersion: Rev. C, 02/2010; PackageReference: A16+2; PackageDescription: 16-Pin Shrink Small-Outline Package, Body 5.29 x 6.2 mm, Pitch 0.65 mm; Supplier 1: Digi-Key; Supplier Part Number 1: MAX1452CAE+TC8H-ND; Supplier 2: Mouser; Supplier Part Number 2: 700-MAX1452CAE+TC8H; DACs/ADCs: 16-bit DAC; Features: Aux. Op Amp, No External Trim Req'd ,Temp. Sensor; Packing: Tape and Reel; Mounting Technology: Surface Mount; ComponentLink1Description: Manufacturer URL; ComponentLink1URL: http://www.maximintegrated.com/; ComponentLink2Description: Datasheet; ComponentLink2URL: http://datasheets.maximintegrated.com/en/ds/MAX1452.pdf; ComponentLink3Description: Package Specification; ComponentLink3URL: http://pdfserv.maximintegrated.com/package_dwgs/21-0056.PDF
footprint MAXM-A16+2_N (SOP, 16-Leads, Body 6.2x5.29mm, Pitch 0.65mm, IPC Medium Density)
footprint MAXM-A16+2_L (SOP, 16-Leads, Body 6.2x5.29mm, Pitch 0.65mm, IPC High Density)
footprint MAXM-A16+2_M (SOP, 16-Leads, Body 6.2x5.29mm, Pitch 0.65mm, IPC Low Density)
pins: 1 ISRC (in) "Bridge Drive Current Mode Setting", 2 OUT (hiz) "High ESD and Scan Path Output Signal. May need a 0.1uF capacitor, in noisy environments. OUT may be parallel connected to DIO.", 3 VSS (power) "Negative Supply Voltage", 4 INM (in) "Bridge Negative Input. Can be swapped to INP by configuration register.", 5 BDR (out) "Bridge Drive", 6 INP (in) "Bridge Positive Input. Can be swapped to INM by configuration register.", 7 VDD (power) "Positive Supply Voltage. Connect a 0.1uF capacitor from VDD to VSS.", 8 TEST (in) "Internally Connected. Connect to VSS.", 9 VDDF (power) "Positive Supply Voltage for EEPROM. Connect a 1uF capacitor from VDDF to VSS. Connect VDDF to VDD or for improved noise performance connect a 30ohm resistor to VDD.", 10 UNLOCK (in) "Secure-Lock Disable. Allows communication to the device.", 11 DIO (io) "Digital Input Output. DIO allows communication with the device.", 12 CLK1M (out) "1MHz Clock Output. The output can be controlled by a configuration bit.", 13 AMPOUT (out) "Uncommitted Amplifier Output", 14 AMP- (in) "Uncommitted Amplifier Negative Input", 15 AMP+ (in) "Uncommitted Amplifier Positive Input", 16 FSOTC (out) "Full Span TC Buffered Output"

## MAX1452CAE-T
designator U?
Low Cost Precision Sensor Signal Conditioner with 16-bit DAC, 0 to 70 degC, 16-Pin SOP (A16-2), Tape and Reel; Generic Part Number: MAX1452; PartNumber: MAX1452CAE-T; Calibration Method: Internal DACs updated from internal EEPROM; Industry Qualified: Automotive - AECQ100, Automotive - General; Output Type: Analog; DatasheetVersion: Rev. 2; PackageVersion: Rev. C, 02/2010; PackageReference: A16-2; PackageDescription: 16-Pin Shrink Small-Outline Package, Body 5.29 x 6.2 mm, Pitch 0.65 mm; Supplier 1: Mouser; Supplier Part Number 1: N/A; DACs/ADCs: 16-bit DAC; Features: Aux. Op Amp, No External Trim Req'd ,Temp. Sensor; Packing: Tape and Reel; Mounting Technology: Surface Mount; ComponentLink1Description: Manufacturer URL; ComponentLink1URL: http://www.maximintegrated.com/; ComponentLink2Description: Datasheet; ComponentLink2URL: http://datasheets.maximintegrated.com/en/ds/MAX1452.pdf; ComponentLink3Description: Package Specification; ComponentLink3URL: http://pdfserv.maximintegrated.com/package_dwgs/21-0056.PDF
footprint MAXM-A16-2_N (SOP, 16-Leads, Body 6.2x5.29mm, Pitch 0.65mm, IPC Medium Density)
footprint MAXM-A16-2_L (SOP, 16-Leads, Body 6.2x5.29mm, Pitch 0.65mm, IPC High Density)
footprint MAXM-A16-2_M (SOP, 16-Leads, Body 6.2x5.29mm, Pitch 0.65mm, IPC Low Density)
pins: 1 ISRC (in) "Bridge Drive Current Mode Setting", 2 OUT (hiz) "High ESD and Scan Path Output Signal. May need a 0.1uF capacitor, in noisy environments. OUT may be parallel connected to DIO.", 3 VSS (power) "Negative Supply Voltage", 4 INM (in) "Bridge Negative Input. Can be swapped to INP by configuration register.", 5 BDR (out) "Bridge Drive", 6 INP (in) "Bridge Positive Input. Can be swapped to INM by configuration register.", 7 VDD (power) "Positive Supply Voltage. Connect a 0.1uF capacitor from VDD to VSS.", 8 TEST (in) "Internally Connected. Connect to VSS.", 9 VDDF (power) "Positive Supply Voltage for EEPROM. Connect a 1uF capacitor from VDDF to VSS. Connect VDDF to VDD or for improved noise performance connect a 30ohm resistor to VDD.", 10 UNLOCK (in) "Secure-Lock Disable. Allows communication to the device.", 11 DIO (io) "Digital Input Output. DIO allows communication with the device.", 12 CLK1M (out) "1MHz Clock Output. The output can be controlled by a configuration bit.", 13 AMPOUT (out) "Uncommitted Amplifier Output", 14 AMP- (in) "Uncommitted Amplifier Negative Input", 15 AMP+ (in) "Uncommitted Amplifier Positive Input", 16 FSOTC (out) "Full Span TC Buffered Output"

## MAX1452EAE
designator U?
Low Cost Precision Sensor Signal Conditioner with 16-bit DAC, -40 to 85 degC, 16-Pin SOP (A16-2); Generic Part Number: MAX1452; PartNumber: MAX1452EAE; Calibration Method: Internal DACs updated from internal EEPROM; Industry Qualified: Automotive - AECQ100, Automotive - General; Output Type: Analog; DatasheetVersion: Rev. 2; PackageVersion: Rev. C, 02/2010; PackageReference: A16-2; PackageDescription: 16-Pin Shrink Small-Outline Package, Body 5.29 x 6.2 mm, Pitch 0.65 mm; Supplier 1: Mouser; Supplier Part Number 1: N/A; DACs/ADCs: 16-bit DAC; Features: Aux. Op Amp, No External Trim Req'd ,Temp. Sensor; Mounting Technology: Surface Mount; ComponentLink1Description: Manufacturer URL; ComponentLink1URL: http://www.maximintegrated.com/; ComponentLink2Description: Datasheet; ComponentLink2URL: http://datasheets.maximintegrated.com/en/ds/MAX1452.pdf; ComponentLink3Description: Package Specification; ComponentLink3URL: http://pdfserv.maximintegrated.com/package_dwgs/21-0056.PDF
footprint MAXM-A16-2_N (SOP, 16-Leads, Body 6.2x5.29mm, Pitch 0.65mm, IPC Medium Density)
footprint MAXM-A16-2_L (SOP, 16-Leads, Body 6.2x5.29mm, Pitch 0.65mm, IPC High Density)
footprint MAXM-A16-2_M (SOP, 16-Leads, Body 6.2x5.29mm, Pitch 0.65mm, IPC Low Density)
pins: 1 ISRC (in) "Bridge Drive Current Mode Setting", 2 OUT (hiz) "High ESD and Scan Path Output Signal. May need a 0.1uF capacitor, in noisy environments. OUT may be parallel connected to DIO.", 3 VSS (power) "Negative Supply Voltage", 4 INM (in) "Bridge Negative Input. Can be swapped to INP by configuration register.", 5 BDR (out) "Bridge Drive", 6 INP (in) "Bridge Positive Input. Can be swapped to INM by configuration register.", 7 VDD (power) "Positive Supply Voltage. Connect a 0.1uF capacitor from VDD to VSS.", 8 TEST (in) "Internally Connected. Connect to VSS.", 9 VDDF (power) "Positive Supply Voltage for EEPROM. Connect a 1uF capacitor from VDDF to VSS. Connect VDDF to VDD or for improved noise performance connect a 30ohm resistor to VDD.", 10 UNLOCK (in) "Secure-Lock Disable. Allows communication to the device.", 11 DIO (io) "Digital Input Output. DIO allows communication with the device.", 12 CLK1M (out) "1MHz Clock Output. The output can be controlled by a configuration bit.", 13 AMPOUT (out) "Uncommitted Amplifier Output", 14 AMP- (in) "Uncommitted Amplifier Negative Input", 15 AMP+ (in) "Uncommitted Amplifier Positive Input", 16 FSOTC (out) "Full Span TC Buffered Output"

## MAX1452EAE+
designator U?
Low Cost Precision Sensor Signal Conditioner with 16-bit DAC, -40 to 85 degC, 16-Pin SOP (A16+2), Pb-Free; Generic Part Number: MAX1452; PartNumber: MAX1452EAE+; Calibration Method: Internal DACs updated from internal EEPROM; Industry Qualified: Automotive - AECQ100, Automotive - General; Output Type: Analog; DatasheetVersion: Rev. 2; PackageVersion: Rev. C, 02/2010; PackageReference: A16+2; PackageDescription: 16-Pin Shrink Small-Outline Package, Body 5.29 x 6.2 mm, Pitch 0.65 mm; Supplier 1: Digi-Key; Supplier Part Number 1: MAX1452EAE+-ND; Supplier 2: Mouser; Supplier Part Number 2: 700-MAX1452EAE; DACs/ADCs: 16-bit DAC; Features: Aux. Op Amp, No External Trim Req'd ,Temp. Sensor; Mounting Technology: Surface Mount; ComponentLink1Description: Manufacturer URL; ComponentLink1URL: http://www.maximintegrated.com/; ComponentLink2Description: Datasheet; ComponentLink2URL: http://datasheets.maximintegrated.com/en/ds/MAX1452.pdf; ComponentLink3Description: Package Specification; ComponentLink3URL: http://pdfserv.maximintegrated.com/package_dwgs/21-0056.PDF
footprint MAXM-A16+2_N (SOP, 16-Leads, Body 6.2x5.29mm, Pitch 0.65mm, IPC Medium Density)
footprint MAXM-A16+2_L (SOP, 16-Leads, Body 6.2x5.29mm, Pitch 0.65mm, IPC High Density)
footprint MAXM-A16+2_M (SOP, 16-Leads, Body 6.2x5.29mm, Pitch 0.65mm, IPC Low Density)
pins: 1 ISRC (in) "Bridge Drive Current Mode Setting", 2 OUT (hiz) "High ESD and Scan Path Output Signal. May need a 0.1uF capacitor, in noisy environments. OUT may be parallel connected to DIO.", 3 VSS (power) "Negative Supply Voltage", 4 INM (in) "Bridge Negative Input. Can be swapped to INP by configuration register.", 5 BDR (out) "Bridge Drive", 6 INP (in) "Bridge Positive Input. Can be swapped to INM by configuration register.", 7 VDD (power) "Positive Supply Voltage. Connect a 0.1uF capacitor from VDD to VSS.", 8 TEST (in) "Internally Connected. Connect to VSS.", 9 VDDF (power) "Positive Supply Voltage for EEPROM. Connect a 1uF capacitor from VDDF to VSS. Connect VDDF to VDD or for improved noise performance connect a 30ohm resistor to VDD.", 10 UNLOCK (in) "Secure-Lock Disable. Allows communication to the device.", 11 DIO (io) "Digital Input Output. DIO allows communication with the device.", 12 CLK1M (out) "1MHz Clock Output. The output can be controlled by a configuration bit.", 13 AMPOUT (out) "Uncommitted Amplifier Output", 14 AMP- (in) "Uncommitted Amplifier Negative Input", 15 AMP+ (in) "Uncommitted Amplifier Positive Input", 16 FSOTC (out) "Full Span TC Buffered Output"